# Altium footprint library CON 56579.PcbLib: 1 footprints
Each footprint in its own frame and in the unit in brackets; x right, y up, seen from the top. Pads: shape width x height; smd on the part's side, far side on the other; paste and mask are expansions set on the pad; w line width, h text height; cw(c..) or ccw(c..) is an arc to the next point about the centre after c.
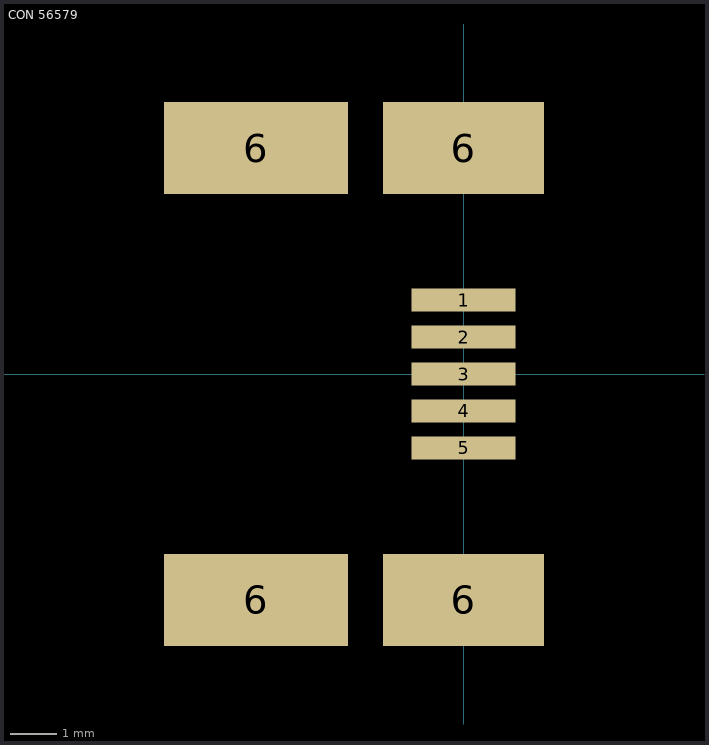
[diagram p0: the footprint, top view; thin cyan lines are the x and y axes]

## CON 56579 [mm]
pads (9):
  rect 2.25x0.5 smd: 1(0,1.6) 2(0,0.8) 3(0,0) 4(0,-0.8) 5(0,-1.6)
  rect 4x2 smd: 6(-4.5,-4.9) 6(-4.5,4.9)
  rect 3.5x2 smd: 6(0,-4.9) 6(0,4.9)
3D body: height 3.95, standoff 0, extent -8.4,-5.05 0.6,4.85